# Altium schematic symbol library Schlib1.SchLib: 7 symbols
Pins are listed as number, name and electrical type; pins without a type are passive.

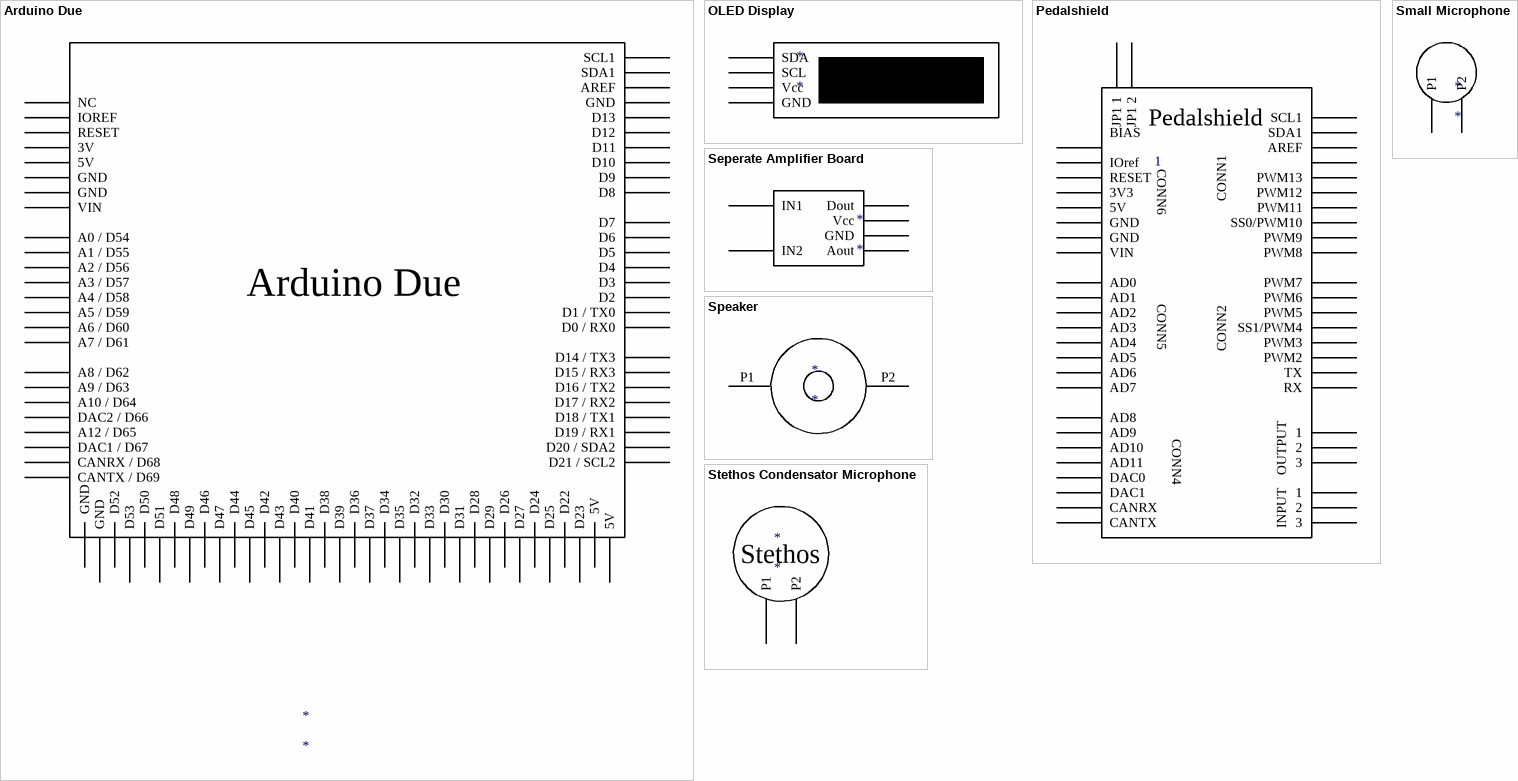
[diagram p0: symbols Arduino Due to Stethos Condensator Microphone]

## Arduino Due
designator *
pins: 16 D13, 17 D12, 18 D11, 19 D10, 20 D9, 21 D8, 22 D7, 23 D6, 24 D5, 25 D4, 26 D3, 27 D2, 28 D1 / TX0, 29 D0 / RX0, 30 D14 / TX3, 31 D15 / RX3, 32 D16 / TX2, 33 D17 / RX2, 34 D18 / TX1, 35 D19 / RX1, 36 D20 / SDA2, 37 D21 / SCL2, AREF, GND, SCL1, SDA1, SDA2 NC, SDA3 IOREF, SDA4 RESET, SDA5 3V, SDA6 5V, SDA7 GND, SDA8 GND, SDA9 VIN, SDA11 A0 / D54, SDA12 A1 / D55, SDA13 A2 / D56, SDA14 A3 / D57, SDA15 A4 / D58, SDA16 A5 / D59, SDA17 A6 / D60, SDA18 A7 / D61, SDA20 A8 / D62, SDA21 A9 / D63, SDA22 A10 / D64, SDA23 DAC2 / D66, SDA24 A12 / D65, SDA25 DAC1 / D67, SDA26 CANRX / D68, SDA27 CANTX / D69, SDA28 5V, SDA29 5V, SDA30 D23, SDA31 D22, SDA32 D25, SDA33 D24, SDA34 D27, SDA35 D26, SDA36 D29, SDA37 D28, SDA38 D31, SDA39 D30, SDA40 D33, SDA41 D32, SDA42 D35, SDA43 D34, SDA44 D37, SDA45 D36, SDA46 D39, SDA47 D38, SDA48 D41, SDA49 D43, SDA50 D45, SDA51 D47, SDA52 D49, SDA53 D51, SDA54 D53, SDA55 GND, SDA55 GND, SDA56 D40, SDA57 D42, SDA58 D44, SDA59 D46, SDA60 D48, SDA61 D50, SDA62 D52

## OLED Display
designator *
pins: SDA69 SDA, SDA70 SCL, SDA71 Vcc, SDA72 GND

## Pedalshield
designator *, comment 1
pins: SDA74 SCL1, SDA75 SDA1, SDA76 AREF, SDA77, SDA78 PWM13, SDA79 PWM12, SDA80 PWM11, SDA81 SS0/PWM10, SDA82 PWM7, SDA83 PWM6, SDA84 PWM5, SDA85 SS1/PWM4, SDA86 PWM3, SDA87 TX, SDA88 RX, SDA90 CANTX, SDA91 CANRX, SDA92 DAC1, SDA93 DAC0, SDA94 AD11, SDA95 AD10, SDA96 AD9, SDA97 AD8, SDA98 JP1 1, SDA99 JP1 2, SDA100, SDA101 IOref, SDA102 RESET, SDA103 3V3, SDA104 5V, SDA105 GND, SDA106 GND, SDA107 VIN, SDA108 AD0, SDA109 AD1, SDA110 AD2, SDA111 AD3, SDA112 AD4, SDA113 AD5, SDA114 AD6, SDA115 AD7, SDA116 PWM9, SDA117 PWM8, SDA118 PWM2, SDA119 1, SDA120 2, SDA121 3, SDA122 1, SDA123 2, SDA124 3
text: BIAS; CONN1; CONN6; CONN5; CONN2; OUTPUT; CONN4; INPUT

## Seperate Amplifier Board
designator *
pins: SDA63 Dout, SDA64 Vcc, SDA65 GND, SDA66 Aout, SDA67 IN1, SDA68 IN2

## Small Microphone
designator *
pins: SDA67 P2, SDA68 P1

## Speaker
designator *
pins: P1, P2

## Stethos Condensator Microphone
designator *
pins: SDA67 P2, SDA68 P1
text: Stethos